# Altium schematic symbol library JXD0-4015NL.SchLib: 1 symbol
Pins are listed as number, name and electrical type; pins without a type are passive.

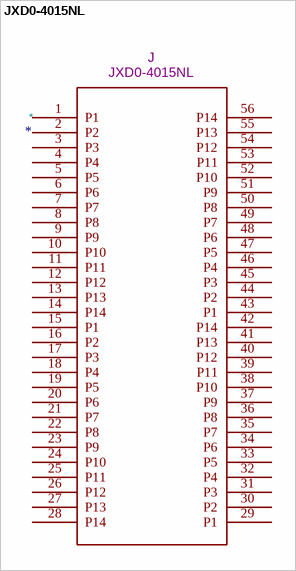
[diagram p0: symbol JXD0-4015NL]

## JXD0-4015NL
designator *  value JXD0-4015NL  Reference: J
ki_fp_filters: JXD0-4015NL_PUL; Footprint: JXD0-4015NL_PUL; Datasheet: JXD0-4015NL; ki_keywords: JXD0-4015NL
pins: 1 P1, 2 P2, 3 P3, 4 P4, 5 P5, 6 P6, 7 P7, 8 P8, 9 P9, 10 P10, 11 P11, 12 P12, 13 P13, 14 P14, 15 P1, 16 P2, 17 P3, 18 P4, 19 P5, 20 P6, 21 P7, 22 P8, 23 P9, 24 P10, 25 P11, 26 P12, 27 P13, 28 P14, 29 P1, 30 P2, 31 P3, 32 P4, 33 P5, 34 P6, 35 P7, 36 P8, 37 P9, 38 P10, 39 P11, 40 P12, 41 P13, 42 P14, 43 P1, 44 P2, 45 P3, 46 P4, 47 P5, 48 P6, 49 P7, 50 P8, 51 P9, 52 P10, 53 P11, 54 P12, 55 P13, 56 P14